# Altium footprint library SMD Resistors 2012.PcbLib: 73 footprints (part 5 of 5)
Each footprint in its own frame and in the unit in brackets; x right, y up, seen from the top. Pads: shape width x height; smd on the part's side, far side on the other; paste and mask are expansions set on the pad; w line width, h text height; cw(c..) or ccw(c..) is an arc to the next point about the centre after c.
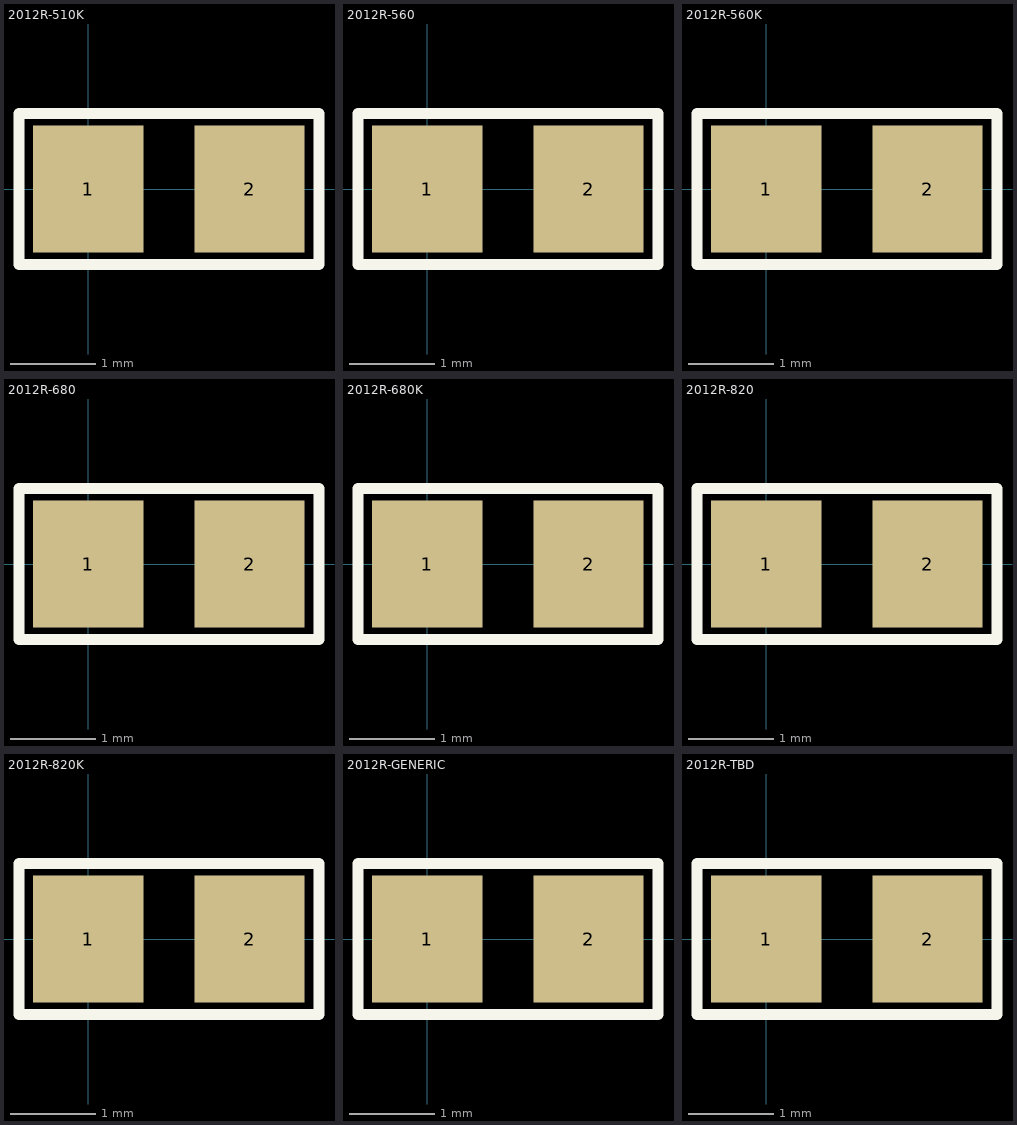
[diagram p4: the footprints below, top view; thin cyan lines are the x and y axes]

## 2012R-510K [mm] "RESISTOR 2012"
pads (2):
  rect 1.3x1.5 smd: 1(0,0) 2(1.9,0)
Top Overlay:
  lines w0.127: -0.813,-0.889 -0.813,0.889 2.718,0.889 2.718,-0.889 -0.813,-0.889
3D body: height 0.69, standoff 0.66, extent 0.597,-0.191 0.787,0.191
3D body: height 0.64, standoff 0, extent -0.051,-0.61 1.956,0.61
3D body: height 0.66, standoff 0, extent -0.076,-0.635 0.33,0.635
3D body: height 0.66, standoff 0.64, extent 0.33,-0.559 1.575,0.559
3D body: height 0.66, standoff 0, extent 1.575,-0.635 1.981,0.635
3D body: height 0.69, standoff 0.66, extent 0.876,-0.191 1.067,0.191
3D body: height 0.69, standoff 0.66, extent 1.156,-0.203 1.346,0.178

## 2012R-560 [mm] "RESISTOR 0805"
pads (2):
  rect 1.3x1.5 smd: 1(0,0) 2(1.9,0)
Top Overlay:
  lines w0.127: -0.813,-0.889 -0.813,0.889 2.718,0.889 2.718,-0.889 -0.813,-0.889
3D body: height 0.69, standoff 0.66, extent 1.105,-0.191 1.295,0.191
3D body: height 0.69, standoff 0.66, extent 0.851,-0.191 1.041,0.191
3D body: height 0.69, standoff 0.66, extent 0.597,-0.191 0.787,0.191
3D body: height 0.64, standoff 0, extent -0.051,-0.61 1.956,0.61
3D body: height 0.66, standoff 0, extent -0.076,-0.635 0.33,0.635
3D body: height 0.66, standoff 0.64, extent 0.33,-0.559 1.575,0.559
3D body: height 0.66, standoff 0, extent 1.575,-0.635 1.981,0.635

## 2012R-560K [mm] "RESISTOR 0805"
pads (2):
  rect 1.3x1.5 smd: 1(0,0) 2(1.9,0)
Top Overlay:
  lines w0.127: -0.813,-0.889 -0.813,0.889 2.718,0.889 2.718,-0.889 -0.813,-0.889
3D body: height 0.69, standoff 0.66, extent 1.105,-0.191 1.295,0.191
3D body: height 0.69, standoff 0.66, extent 0.851,-0.191 1.041,0.191
3D body: height 0.69, standoff 0.66, extent 0.597,-0.191 0.787,0.191
3D body: height 0.64, standoff 0, extent -0.051,-0.61 1.956,0.61
3D body: height 0.66, standoff 0, extent -0.076,-0.635 0.33,0.635
3D body: height 0.66, standoff 0.64, extent 0.33,-0.559 1.575,0.559
3D body: height 0.66, standoff 0, extent 1.575,-0.635 1.981,0.635

## 2012R-680 [mm] "RESISTOR 0805"
pads (2):
  rect 1.3x1.5 smd: 1(0,0) 2(1.9,0)
Top Overlay:
  lines w0.127: -0.813,-0.889 2.718,-0.889 2.718,0.889 -0.813,0.889 -0.813,-0.889
3D body: height 0.66, standoff 0, extent 1.575,-0.635 1.981,0.635
3D body: height 0.66, standoff 0.64, extent 0.33,-0.559 1.575,0.559
3D body: height 0.66, standoff 0, extent -0.076,-0.635 0.33,0.635
3D body: height 0.64, standoff 0, extent -0.051,-0.61 1.956,0.61
3D body: height 0.69, standoff 0.66, extent 0.597,-0.191 0.787,0.191
3D body: height 0.69, standoff 0.66, extent 1.105,-0.191 1.295,0.191
3D body: height 0.69, standoff 0.66, extent 0.851,-0.191 1.041,0.191

## 2012R-680K [mm] "RESISTOR 0805"
pads (2):
  rect 1.3x1.5 smd: 1(0,0) 2(1.9,0)
Top Overlay:
  lines w0.127: -0.813,-0.889 -0.813,0.889 2.718,0.889 2.718,-0.889 -0.813,-0.889
3D body: height 0.69, standoff 0.66, extent 0.851,-0.191 1.041,0.191
3D body: height 0.69, standoff 0.66, extent 0.597,-0.191 0.787,0.191
3D body: height 0.64, standoff 0, extent -0.051,-0.61 1.956,0.61
3D body: height 0.66, standoff 0, extent -0.076,-0.635 0.33,0.635
3D body: height 0.66, standoff 0.64, extent 0.33,-0.559 1.575,0.559
3D body: height 0.66, standoff 0, extent 1.575,-0.635 1.981,0.635
3D body: height 0.69, standoff 0.66, extent 1.105,-0.191 1.295,0.191

## 2012R-820 [mm] "RESISTOR 0805"
pads (2):
  rect 1.3x1.5 smd: 1(0,0) 2(1.9,0)
Top Overlay:
  lines w0.127: -0.813,-0.889 -0.813,0.889 2.718,0.889 2.718,-0.889 -0.813,-0.889
3D body: height 0.69, standoff 0.66, extent 1.105,-0.191 1.295,0.191
3D body: height 0.69, standoff 0.66, extent 0.851,-0.191 1.041,0.191
3D body: height 0.69, standoff 0.66, extent 0.597,-0.191 0.787,0.191
3D body: height 0.64, standoff 0, extent -0.051,-0.61 1.956,0.61
3D body: height 0.66, standoff 0, extent -0.076,-0.635 0.33,0.635
3D body: height 0.66, standoff 0.64, extent 0.33,-0.559 1.575,0.559
3D body: height 0.66, standoff 0, extent 1.575,-0.635 1.981,0.635

## 2012R-820K [mm] "RESISTOR 0805"
pads (2):
  rect 1.3x1.5 smd: 1(0,0) 2(1.9,0)
Top Overlay:
  lines w0.127: -0.813,-0.889 -0.813,0.889 2.718,0.889 2.718,-0.889 -0.813,-0.889
3D body: height 0.69, standoff 0.66, extent 0.851,-0.191 1.041,0.191
3D body: height 0.69, standoff 0.66, extent 0.597,-0.191 0.787,0.191
3D body: height 0.64, standoff 0, extent -0.051,-0.61 1.956,0.61
3D body: height 0.66, standoff 0, extent -0.076,-0.635 0.33,0.635
3D body: height 0.66, standoff 0.64, extent 0.33,-0.559 1.575,0.559
3D body: height 0.66, standoff 0, extent 1.575,-0.635 1.981,0.635
3D body: height 0.69, standoff 0.66, extent 1.105,-0.191 1.295,0.191

## 2012R-GENERIC [mm] "RESISTOR 0805"
pads (2):
  rect 1.3x1.5 smd: 1(0,0) 2(1.9,0)
Top Overlay:
  lines w0.127: -0.813,-0.889 -0.813,0.889 2.718,0.889 2.718,-0.889 -0.813,-0.889
3D body: height 0.69, standoff 0.66, extent 1.46,0.051 1.651,0.432
3D body: height 0.69, standoff 0.66, extent 1.206,0.051 1.397,0.432
3D body: height 0.64, standoff 0, extent -0.051,-0.61 1.956,0.61
3D body: height 0.66, standoff 0, extent -0.076,-0.635 0.33,0.635
3D body: height 0.66, standoff 0.64, extent 0.33,-0.559 1.575,0.559
3D body: height 0.66, standoff 0, extent 1.575,-0.635 1.981,0.635
3D body: height 0.69, standoff 0.66, extent 0.584,-0.394 0.775,-0.013
3D body: height 0.69, standoff 0.66, extent 0.191,0.051 0.381,0.432
3D body: height 0.69, standoff 0.66, extent 0.445,0.051 0.635,0.432
3D body: height 0.69, standoff 0.66, extent 0.699,0.051 0.889,0.432
3D body: height 0.69, standoff 0.66, extent 0.953,0.051 1.143,0.432
3D body: height 0.69, standoff 0.66, extent 0.838,-0.394 1.029,-0.013
3D body: height 0.69, standoff 0.66, extent 0.33,-0.394 0.521,-0.013
3D body: height 0.69, standoff 0.66, extent 1.092,-0.394 1.283,-0.013
3D body: height 0.69, standoff 0.66, extent 1.346,-0.394 1.537,-0.013

## 2012R-TBD [mm] "RESISTOR 0805 VALUE TO BE DETERMINED"
pads (2):
  rect 1.3x1.5 smd: 1(0,0) 2(1.9,0)
Top Overlay:
  lines w0.127: -0.813,-0.889 2.718,-0.889 2.718,0.889 -0.813,0.889 -0.813,-0.889
3D body: height 0.69, standoff 0.66, extent 0.546,-0.127 0.737,0.216
3D body: height 0.66, standoff 0, extent 1.575,-0.635 1.981,0.635
3D body: height 0.66, standoff 0.64, extent 0.33,-0.559 1.575,0.559
3D body: height 0.66, standoff 0, extent -0.076,-0.635 0.33,0.635
3D body: height 0.64, standoff 0, extent -0.051,-0.61 1.956,0.61
3D body: height 0.69, standoff 0.66, extent 0.61,-0.229 0.66,-0.178
3D body: height 0.69, standoff 0.66, extent 0.864,-0.229 0.914,-0.178
3D body: height 0.69, standoff 0.66, extent 0.8,-0.127 0.991,0.216
3D body: height 0.69, standoff 0.66, extent 1.118,-0.229 1.168,-0.178
3D body: height 0.69, standoff 0.66, extent 1.054,-0.127 1.245,0.216